# Altium footprint library Thyristor.PcbLib: 1 footprints
Each footprint in its own frame and in the unit in brackets; x right, y up, seen from the top. Pads: shape width x height; smd on the part's side, far side on the other; paste and mask are expansions set on the pad; w line width, h text height; cw(c..) or ccw(c..) is an arc to the next point about the centre after c.
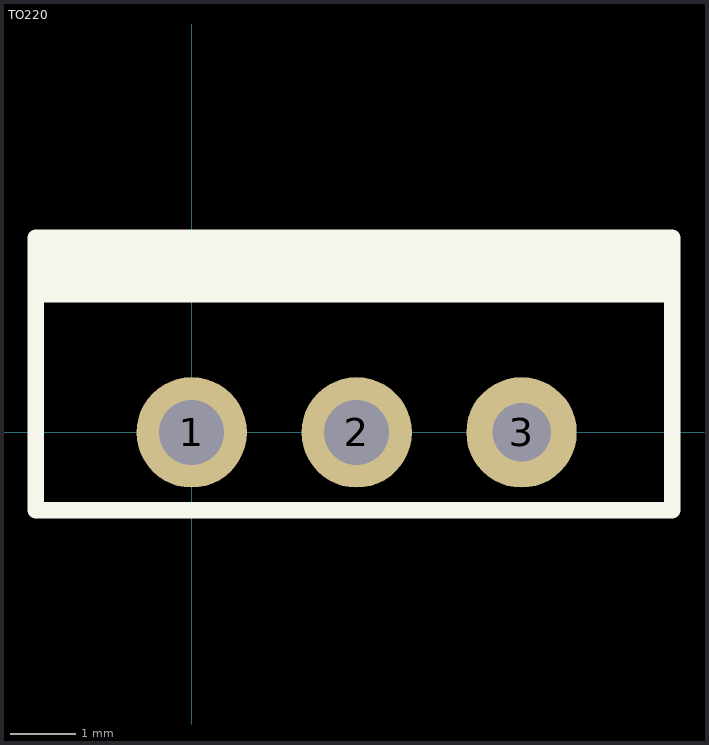
[diagram p0: the footprint, top view; thin cyan lines are the x and y axes]

## TO220 [mm]
pads (3):
  round 1.7 hole 1: 1(0,0) 2(2.54,0)
  round 1.7 hole 0.9: 3(5.08,0)
Top Overlay:
  rectangle: -2.4,2 7.4,3
  lines w0.254: -2.4,-1.2 7.4,-1.2 7.4,3 -0.9,3 -2.4,3 -2.4,-1.2
3D body "SW3DPS-TO-220HS-DEFAULT.STEP": height 18.54, standoff -3.81, extent -2.58,-1.4 7.58,3.172